# EAGLE library part LTC-4627JR (library ABI)
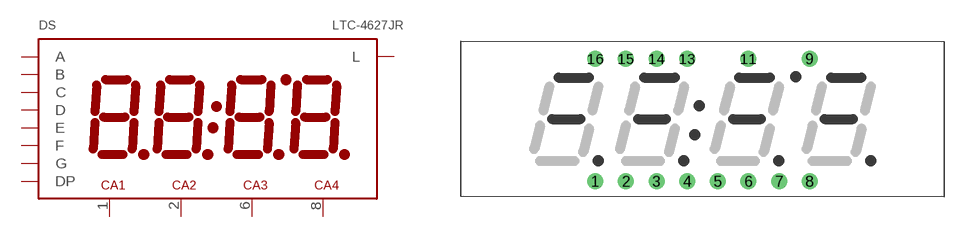
[diagram p11: symbol with the pads of LTC-4627JR; footprint LTC-4627JR]

Designator prefix DS

## LTC-4627JR  [LTC-4627JR]
1  A1
2  A2
3  D
4  L
5  E
6  A3
7  DP
8  A4
11  F
13  C
14  A
15  G
16  B

## Footprint LTC-4627JR (pad centres in mm)
drill 0.813 pad 1.27 round: 1 -8.89,-5.08; 2 -6.35,-5.08; 3 -3.81,-5.08; 4 -1.27,-5.08; 5 1.27,-5.08; 6 3.81,-5.08; 7 6.35,-5.08; 8 8.89,-5.08; 9 8.89,5.08; 11 3.81,5.08; 13 -1.27,5.08; 14 -3.81,5.08; 15 -6.35,5.08; 16 -8.89,5.08